# Altium footprint library Con High-Speed PCB.PcbLib: 35 footprints (part 2 of 3)
Each footprint in its own frame and in the unit in brackets; x right, y up, seen from the top. Pads: shape width x height; smd on the part's side, far side on the other; paste and mask are expansions set on the pad; w line width, h text height; cw(c..) or ccw(c..) is an arc to the next point about the centre after c.
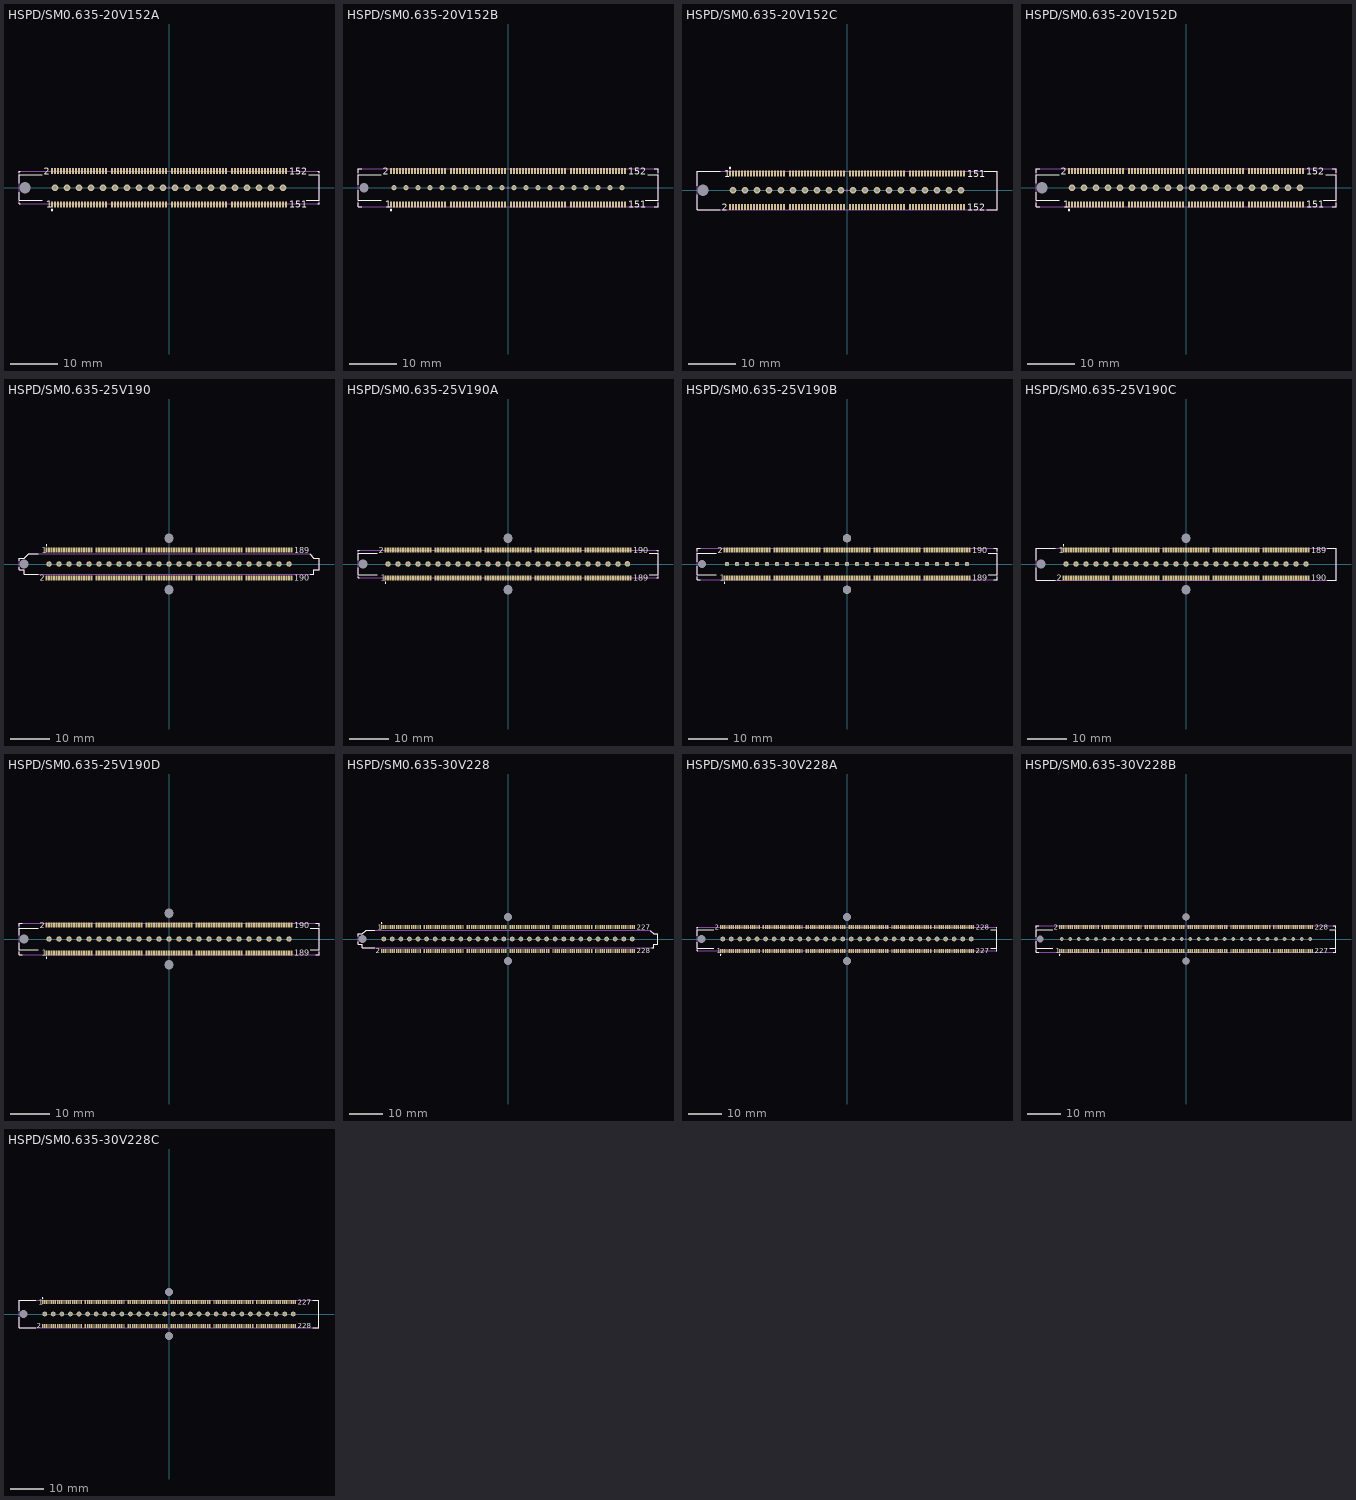
[diagram p1: the footprints below, top view; thin cyan lines are the x and y axes]

## HSPD/SM0.635-20V152A [mil] "Connector; High-Speed, Receptacle; 152 Position; Vertical"
height 250
pads (173):
  rect 17x50 smd: 1(-975,-139) 2(-975,139) 3(-950,-139) 4(-950,139) 5(-925,-139) 6(-925,139) 7(-900,-139) 8(-900,139) 9(-875,-139) 10(-875,139) 11(-850,-139) 12(-850,139) 13(-825,-139) 14(-825,139) 15(-800,-139) 16(-800,139) 17(-775,-139) 18(-775,139) 19(-750,-139) 20(-750,139) 21(-725,-139) 22(-725,139) 23(-700,-139) 24(-700,139) 25(-675,-139) 26(-675,139) 27(-650,-139) 28(-650,139) 29(-625,-139) 30(-625,139) 31(-600,-139) 32(-600,139) 33(-575,-139) 34(-575,139) 35(-550,-139) 36(-550,139) 37(-525,-139) 38(-525,139) 39(-475,-139) 40(-475,139) 41(-450,-139) 42(-450,139) 43(-425,-139) 44(-425,139) 45(-400,-139) 46(-400,139) 47(-375,-139) 48(-375,139) 49(-350,-139) 50(-350,139) 51(-325,-139) 52(-325,139) 53(-300,-139) 54(-300,139) 55(-275,-139) 56(-275,139) 57(-250,-139) 58(-250,139) 59(-225,-139) 60(-225,139) 61(-200,-139) 62(-200,139) 63(-175,-139) 64(-175,139) 65(-150,-139) 66(-150,139) 67(-125,-139) 68(-125,139) 69(-100,-139) 70(-100,139) 71(-75,-139) 72(-75,139) 73(-50,-139) 74(-50,139) 75(-25,-139) 76(-25,139) 77(25,-139) 78(25,139) 79(50,-139) 80(50,139) 81(75,-139) 82(75,139) 83(100,-139) 84(100,139) 85(125,-139) 86(125,139) 87(150,-139) 88(150,139) 89(175,-139) 90(175,139) 91(200,-139) 92(200,139) 93(225,-139) 94(225,139) 95(250,-139) 96(250,139) 97(275,-139) 98(275,139) 99(300,-139) 100(300,139) 101(325,-139) 102(325,139) 103(350,-139) 104(350,139) 105(375,-139) 106(375,139) 107(400,-139) 108(400,139) 109(425,-139) 110(425,139) 111(450,-139) 112(450,139) 113(475,-139) 114(475,139) 115(525,-139) 116(525,139) 117(550,-139) 118(550,139) 119(575,-139) 120(575,139) 121(600,-139) 122(600,139) 123(625,-139) 124(625,139) 125(650,-139) 126(650,139) 127(675,-139) 128(675,139) 129(700,-139) 130(700,139) 131(725,-139) 132(725,139) 133(750,-139) 134(750,139) 135(775,-139) 136(775,139) 137(800,-139) 138(800,139) 139(825,-139) 140(825,139) 141(850,-139) 142(850,139) 143(875,-139) 144(875,139) 145(900,-139) 146(900,139) 147(925,-139) 148(925,139) 149(950,-139) 150(950,139) 151(975,-139) 152(975,139)
  round 55.12 hole 32: 153(950,0) 154(850,0) 155(750,0) 156(650,0) 157(550,0) 158(450,0) 159(350,0) 160(250,0) 161(150,0) 162(50,0) 163(-50,0) 164(-150,0) 165(-250,0) 166(-350,0) 167(-450,0) 168(-550,0) 169(-650,0) 170(-750,0) 171(-850,0) 172(-950,0)
  round 82.19 hole 94 unplated: 173(-1200,0)
Top Overlay:
  circle w9.84: c-975,-185.65 r4.92
  lines w7.87: -1250,-125.69 -1250,-136 -1239.68,-136 ; -1250,-37.91 -1250,-106 -1056.32,-106 ; -1250,37.91 -1250,106 -1056.32,106 ; -1250,125.69 -1250,136 -1239.68,136 ; 1144.87,-106 1250,-106 1250,106 1164.55,106 ; 1239.68,-136 1250,-136 1250,-125.69 ; 1239.68,136 1250,136 1250,125.69
  text "151" at 1002.56,-168.53 h59.06
  text "152" at 1002.56,109.47 h59.06
  text "2" at -1041.93,109.47 h59.06
  text "1" at -1022.24,-168.53 h59.06
Mechanical 1:
  lines w3.94: -10,0 10,0 ; 0,-10 0,10
Mechanical 13:
  lines w3.94: -1250,-136 1250,-136 1250,136 -1250,136 -1250,-136
3D body: height 250, standoff 0, extent -1250,-136 1250,136

## HSPD/SM0.635-20V152B [mil] "Connector; High-Speed, Receptacle; 152 Position; Vertical"
height 600.79
pads (173):
  rect 17x50 smd: 1(-975,-139) 2(-975,139) 3(-950,-139) 4(-950,139) 5(-925,-139) 6(-925,139) 7(-900,-139) 8(-900,139) 9(-875,-139) 10(-875,139) 11(-850,-139) 12(-850,139) 13(-825,-139) 14(-825,139) 15(-800,-139) 16(-800,139) 17(-775,-139) 18(-775,139) 19(-750,-139) 20(-750,139) 21(-725,-139) 22(-725,139) 23(-700,-139) 24(-700,139) 25(-675,-139) 26(-675,139) 27(-650,-139) 28(-650,139) 29(-625,-139) 30(-625,139) 31(-600,-139) 32(-600,139) 33(-575,-139) 34(-575,139) 35(-550,-139) 36(-550,139) 37(-525,-139) 38(-525,139) 39(-475,-139) 40(-475,139) 41(-450,-139) 42(-450,139) 43(-425,-139) 44(-425,139) 45(-400,-139) 46(-400,139) 47(-375,-139) 48(-375,139) 49(-350,-139) 50(-350,139) 51(-325,-139) 52(-325,139) 53(-300,-139) 54(-300,139) 55(-275,-139) 56(-275,139) 57(-250,-139) 58(-250,139) 59(-225,-139) 60(-225,139) 61(-200,-139) 62(-200,139) 63(-175,-139) 64(-175,139) 65(-150,-139) 66(-150,139) 67(-125,-139) 68(-125,139) 69(-100,-139) 70(-100,139) 71(-75,-139) 72(-75,139) 73(-50,-139) 74(-50,139) 75(-25,-139) 76(-25,139) 77(25,-139) 78(25,139) 79(50,-139) 80(50,139) 81(75,-139) 82(75,139) 83(100,-139) 84(100,139) 85(125,-139) 86(125,139) 87(150,-139) 88(150,139) 89(175,-139) 90(175,139) 91(200,-139) 92(200,139) 93(225,-139) 94(225,139) 95(250,-139) 96(250,139) 97(275,-139) 98(275,139) 99(300,-139) 100(300,139) 101(325,-139) 102(325,139) 103(350,-139) 104(350,139) 105(375,-139) 106(375,139) 107(400,-139) 108(400,139) 109(425,-139) 110(425,139) 111(450,-139) 112(450,139) 113(475,-139) 114(475,139) 115(525,-139) 116(525,139) 117(550,-139) 118(550,139) 119(575,-139) 120(575,139) 121(600,-139) 122(600,139) 123(625,-139) 124(625,139) 125(650,-139) 126(650,139) 127(675,-139) 128(675,139) 129(700,-139) 130(700,139) 131(725,-139) 132(725,139) 133(750,-139) 134(750,139) 135(775,-139) 136(775,139) 137(800,-139) 138(800,139) 139(825,-139) 140(825,139) 141(850,-139) 142(850,139) 143(875,-139) 144(875,139) 145(900,-139) 146(900,139) 147(925,-139) 148(925,139) 149(950,-139) 150(950,139) 151(975,-139) 152(975,139)
  round 43.31 hole 25: 153(950,0) 154(850,0) 155(750,0) 156(650,0) 157(550,0) 158(450,0) 159(350,0) 160(250,0) 161(150,0) 162(50,0) 163(-50,0) 164(-150,0) 165(-250,0) 166(-350,0) 167(-450,0) 168(-550,0) 169(-650,0) 170(-750,0) 171(-850,0) 172(-950,0)
  round 67.19 hole 79 unplated: 173(-1200,0)
Top Overlay:
  circle w9.84: c-975,-185.65 r4.92
  lines w7.87: -1250,-125.69 -1250,-157.5 -1218.18,-157.5 ; -1250,-23.5 -1250,-106 -1056.32,-106 ; -1250,23.5 -1250,106 -1056.32,106 ; -1250,125.69 -1250,157.5 -1218.18,157.5 ; 1144.87,-106 1250,-106 1250,106 1164.55,106 ; 1218.18,-157.5 1250,-157.5 1250,-125.69 ; 1218.18,157.5 1250,157.5 1250,125.69
  text "1" at -1022.24,-168.53 h59.06
  text "2" at -1041.93,109.47 h59.06
  text "152" at 1002.56,109.47 h59.06
  text "151" at 1002.56,-168.53 h59.06
Mechanical 1:
  lines w3.94: -10,0 10,0 ; 0,-10 0,10
Mechanical 13:
  lines w3.94: -1250,-157.5 1250,-157.5 1250,157.5 -1250,157.5 -1250,-157.5
3D body: height 600.79, standoff 0, extent -1250,-157.5 1250,157.5

## HSPD/SM0.635-20V152C [mil] "Connector; High-Speed, Plug; 152 Position; Vertical"
height 903.15
pads (173):
  rect 17x50 smd: 1(-975,139) 2(-975,-139) 3(-950,139) 4(-950,-139) 5(-925,139) 6(-925,-139) 7(-900,139) 8(-900,-139) 9(-875,139) 10(-875,-139) 11(-850,139) 12(-850,-139) 13(-825,139) 14(-825,-139) 15(-800,139) 16(-800,-139) 17(-775,139) 18(-775,-139) 19(-750,139) 20(-750,-139) 21(-725,139) 22(-725,-139) 23(-700,139) 24(-700,-139) 25(-675,139) 26(-675,-139) 27(-650,139) 28(-650,-139) 29(-625,139) 30(-625,-139) 31(-600,139) 32(-600,-139) 33(-575,139) 34(-575,-139) 35(-550,139) 36(-550,-139) 37(-525,139) 38(-525,-139) 39(-475,139) 40(-475,-139) 41(-450,139) 42(-450,-139) 43(-425,139) 44(-425,-139) 45(-400,139) 46(-400,-139) 47(-375,139) 48(-375,-139) 49(-350,139) 50(-350,-139) 51(-325,139) 52(-325,-139) 53(-300,139) 54(-300,-139) 55(-275,139) 56(-275,-139) 57(-250,139) 58(-250,-139) 59(-225,139) 60(-225,-139) 61(-200,139) 62(-200,-139) 63(-175,139) 64(-175,-139) 65(-150,139) 66(-150,-139) 67(-125,139) 68(-125,-139) 69(-100,139) 70(-100,-139) 71(-75,139) 72(-75,-139) 73(-50,139) 74(-50,-139) 75(-25,139) 76(-25,-139) 77(25,139) 78(25,-139) 79(50,139) 80(50,-139) 81(75,139) 82(75,-139) 83(100,139) 84(100,-139) 85(125,139) 86(125,-139) 87(150,139) 88(150,-139) 89(175,139) 90(175,-139) 91(200,139) 92(200,-139) 93(225,139) 94(225,-139) 95(250,139) 96(250,-139) 97(275,139) 98(275,-139) 99(300,139) 100(300,-139) 101(325,139) 102(325,-139) 103(350,139) 104(350,-139) 105(375,139) 106(375,-139) 107(400,139) 108(400,-139) 109(425,139) 110(425,-139) 111(450,139) 112(450,-139) 113(475,139) 114(475,-139) 115(525,139) 116(525,-139) 117(550,139) 118(550,-139) 119(575,139) 120(575,-139) 121(600,139) 122(600,-139) 123(625,139) 124(625,-139) 125(650,139) 126(650,-139) 127(675,139) 128(675,-139) 129(700,139) 130(700,-139) 131(725,139) 132(725,-139) 133(750,139) 134(750,-139) 135(775,139) 136(775,-139) 137(800,139) 138(800,-139) 139(825,139) 140(825,-139) 141(850,139) 142(850,-139) 143(875,139) 144(875,-139) 145(900,139) 146(900,-139) 147(925,139) 148(925,-139) 149(950,139) 150(950,-139) 151(975,139) 152(975,-139)
  round 55.12 hole 32: 153(950,0) 154(850,0) 155(750,0) 156(650,0) 157(550,0) 158(450,0) 159(350,0) 160(250,0) 161(150,0) 162(50,0) 163(-50,0) 164(-150,0) 165(-250,0) 166(-350,0) 167(-450,0) 168(-550,0) 169(-650,0) 170(-750,0) 171(-850,0) 172(-950,0)
  round 82.19 hole 94 unplated: 173(-1200,0)
Top Overlay:
  circle w9.84: c-975,185.65 r4.92
  lines w7.87: -1250,-37.91 -1250,-160 -1056.32,-160 ; -1250,37.91 -1250,160 -1056.32,160 ; 1144.87,160 1250,160 1250,-160 1164.55,-160
  text "151" at 1002.56,109.47 h59.06
  text "152" at 1002.56,-168.53 h59.06
  text "2" at -1041.93,-168.53 h59.06
  text "1" at -1022.24,109.47 h59.06
Mechanical 1:
  lines w3.94: -10,0 10,0 ; 0,-10 0,10
Mechanical 13:
  lines w3.94: -1250,-160 1250,-160 1250,160 -1250,160 -1250,-160
3D body: height 903.15, standoff 0, extent -1250,-160 1250,160

## HSPD/SM0.635-20V152D [mil] "Connector; High-Speed, Receptacle; 152 Position; Vertical"
height 600.79
pads (173):
  rect 17x50 smd: 1(-975,-139) 2(-975,139) 3(-950,-139) 4(-950,139) 5(-925,-139) 6(-925,139) 7(-900,-139) 8(-900,139) 9(-875,-139) 10(-875,139) 11(-850,-139) 12(-850,139) 13(-825,-139) 14(-825,139) 15(-800,-139) 16(-800,139) 17(-775,-139) 18(-775,139) 19(-750,-139) 20(-750,139) 21(-725,-139) 22(-725,139) 23(-700,-139) 24(-700,139) 25(-675,-139) 26(-675,139) 27(-650,-139) 28(-650,139) 29(-625,-139) 30(-625,139) 31(-600,-139) 32(-600,139) 33(-575,-139) 34(-575,139) 35(-550,-139) 36(-550,139) 37(-525,-139) 38(-525,139) 39(-475,-139) 40(-475,139) 41(-450,-139) 42(-450,139) 43(-425,-139) 44(-425,139) 45(-400,-139) 46(-400,139) 47(-375,-139) 48(-375,139) 49(-350,-139) 50(-350,139) 51(-325,-139) 52(-325,139) 53(-300,-139) 54(-300,139) 55(-275,-139) 56(-275,139) 57(-250,-139) 58(-250,139) 59(-225,-139) 60(-225,139) 61(-200,-139) 62(-200,139) 63(-175,-139) 64(-175,139) 65(-150,-139) 66(-150,139) 67(-125,-139) 68(-125,139) 69(-100,-139) 70(-100,139) 71(-75,-139) 72(-75,139) 73(-50,-139) 74(-50,139) 75(-25,-139) 76(-25,139) 77(25,-139) 78(25,139) 79(50,-139) 80(50,139) 81(75,-139) 82(75,139) 83(100,-139) 84(100,139) 85(125,-139) 86(125,139) 87(150,-139) 88(150,139) 89(175,-139) 90(175,139) 91(200,-139) 92(200,139) 93(225,-139) 94(225,139) 95(250,-139) 96(250,139) 97(275,-139) 98(275,139) 99(300,-139) 100(300,139) 101(325,-139) 102(325,139) 103(350,-139) 104(350,139) 105(375,-139) 106(375,139) 107(400,-139) 108(400,139) 109(425,-139) 110(425,139) 111(450,-139) 112(450,139) 113(475,-139) 114(475,139) 115(525,-139) 116(525,139) 117(550,-139) 118(550,139) 119(575,-139) 120(575,139) 121(600,-139) 122(600,139) 123(625,-139) 124(625,139) 125(650,-139) 126(650,139) 127(675,-139) 128(675,139) 129(700,-139) 130(700,139) 131(725,-139) 132(725,139) 133(750,-139) 134(750,139) 135(775,-139) 136(775,139) 137(800,-139) 138(800,139) 139(825,-139) 140(825,139) 141(850,-139) 142(850,139) 143(875,-139) 144(875,139) 145(900,-139) 146(900,139) 147(925,-139) 148(925,139) 149(950,-139) 150(950,139) 151(975,-139) 152(975,139)
  round 55.12 hole 32: 153(950,0) 154(850,0) 155(750,0) 156(650,0) 157(550,0) 158(450,0) 159(350,0) 160(250,0) 161(150,0) 162(50,0) 163(-50,0) 164(-150,0) 165(-250,0) 166(-350,0) 167(-450,0) 168(-550,0) 169(-650,0) 170(-750,0) 171(-850,0) 172(-950,0)
  round 82.19 hole 94 unplated: 173(-1200,0)
Top Overlay:
  circle w9.84: c-975,-185.65 r4.92
  lines w7.87: -1250,-125.69 -1250,-157.5 -1218.18,-157.5 ; -1250,-37.91 -1250,-106 -1056.32,-106 ; -1250,37.91 -1250,106 -1056.32,106 ; -1250,125.69 -1250,157.5 -1218.18,157.5 ; 1144.87,-106 1250,-106 1250,106 1164.55,106 ; 1218.18,-157.5 1250,-157.5 1250,-125.69 ; 1218.18,157.5 1250,157.5 1250,125.69
  text "151" at 1002.56,-168.53 h59.06
  text "152" at 1002.56,109.47 h59.06
  text "2" at -1041.93,109.47 h59.06
  text "1" at -1022.24,-168.53 h59.06
Mechanical 1:
  lines w3.94: -10,0 10,0 ; 0,-10 0,10
Mechanical 13:
  lines w3.94: -1250,-157.5 1250,-157.5 1250,157.5 -1250,157.5 -1250,-157.5
3D body: height 600.79, standoff 0, extent -1250,-157.5 1250,157.5

## HSPD/SM0.635-25V190 [mil] "Connector; High-Speed, Plug; 190 Position; Vertical"
height 435.83
pads (218):
  rect 17x50 smd: 1(-1225,139) 2(-1225,-139) 3(-1200,139) 4(-1200,-139) 5(-1175,139) 6(-1175,-139) 7(-1150,139) 8(-1150,-139) 9(-1125,139) 10(-1125,-139) 11(-1100,139) 12(-1100,-139) 13(-1075,139) 14(-1075,-139) 15(-1050,139) 16(-1050,-139) 17(-1025,139) 18(-1025,-139) 19(-1000,139) 20(-1000,-139) 21(-975,139) 22(-975,-139) 23(-950,139) 24(-950,-139) 25(-925,139) 26(-925,-139) 27(-900,139) 28(-900,-139) 29(-875,139) 30(-875,-139) 31(-850,139) 32(-850,-139) 33(-825,139) 34(-825,-139) 35(-800,139) 36(-800,-139) 37(-775,139) 38(-775,-139) 39(-725,139) 40(-725,-139) 41(-700,139) 42(-700,-139) 43(-675,139) 44(-675,-139) 45(-650,139) 46(-650,-139) 47(-625,139) 48(-625,-139) 49(-600,139) 50(-600,-139) 51(-575,139) 52(-575,-139) 53(-550,139) 54(-550,-139) 55(-525,139) 56(-525,-139) 57(-500,139) 58(-500,-139) 59(-475,139) 60(-475,-139) 61(-450,139) 62(-450,-139) 63(-425,139) 64(-425,-139) 65(-400,139) 66(-400,-139) 67(-375,139) 68(-375,-139) 69(-350,139) 70(-350,-139) 71(-325,139) 72(-325,-139) 73(-300,139) 74(-300,-139) 75(-275,139) 76(-275,-139) 77(-225,139) 78(-225,-139) 79(-200,139) 80(-200,-139) 81(-175,139) 82(-175,-139) 83(-150,139) 84(-150,-139) 85(-125,139) 86(-125,-139) 87(-100,139) 88(-100,-139) 89(-75,139) 90(-75,-139) 91(-50,139) 92(-50,-139) 93(-25,139) 94(-25,-139) 95(0,139) 96(0,-139) 97(25,139) 98(25,-139) 99(50,139) 100(50,-139) 101(75,139) 102(75,-139) 103(100,139) 104(100,-139) 105(125,139) 106(125,-139) 107(150,139) 108(150,-139) 109(175,139) 110(175,-139) 111(200,139) 112(200,-139) 113(225,139) 114(225,-139) 115(275,139) 116(275,-139) 117(300,139) 118(300,-139) 119(325,139) 120(325,-139) 121(350,139) 122(350,-139) 123(375,139) 124(375,-139) 125(400,139) 126(400,-139) 127(425,139) 128(425,-139) 129(450,139) 130(450,-139) 131(475,139) 132(475,-139) 133(500,139) 134(500,-139) 135(525,139) 136(525,-139) 137(550,139) 138(550,-139) 139(575,139) 140(575,-139) 141(600,139) 142(600,-139) 143(625,139) 144(625,-139) 145(650,139) 146(650,-139) 147(675,139) 148(675,-139) 149(700,139) 150(700,-139) 151(725,139) 152(725,-139) 153(775,139) 154(775,-139) 155(800,139) 156(800,-139) 157(825,139) 158(825,-139) 159(850,139) 160(850,-139) 161(875,139) 162(875,-139) 163(900,139) 164(900,-139) 165(925,139) 166(925,-139) 167(950,139) 168(950,-139) 169(975,139) 170(975,-139) 171(1000,139) 172(1000,-139) 173(1025,139) 174(1025,-139) 175(1050,139) 176(1050,-139) 177(1075,139) 178(1075,-139) 179(1100,139) 180(1100,-139) 181(1125,139) 182(1125,-139) 183(1150,139) 184(1150,-139) 185(1175,139) 186(1175,-139) 187(1200,139) 188(1200,-139) 189(1225,139) 190(1225,-139)
  round 55.12 hole 32: 191(1200,0) 192(1100,0) 193(1000,0) 194(900,0) 195(800,0) 196(700,0) 197(600,0) 198(500,0) 199(400,0) 200(300,0) 201(200,0) 202(100,0) 203(0,0) 204(-100,0) 205(-200,0) 206(-300,0) 207(-400,0) 208(-500,0) 209(-600,0) 210(-700,0) 211(-800,0) 212(-900,0) 213(-1000,0) 214(-1100,0) 215(-1200,0)
  round 82.19 hole 94 unplated: 216(-1450,0) 217(0,-257.11) 218(0,257.11)
Top Overlay:
  circle w9.84: c-1225,185.65 r4.92
  lines w7.87: -1500,-31.32 -1500,-59 -1449,-59 -1449,-104 -1306.32,-104 ; -1500,31.32 -1500,59 -1449,59 -1404,104 -1306.32,104 ; 1405.5,102.5 1449,59 1500,59 1500,-59 1449,-59 1449,-104 1414.55,-104
  text "189" at 1252.56,109.47 h59.06
  text "190" at 1252.56,-168.53 h59.06
  text "1" at -1272.24,109.47 h59.06
  text "2" at -1291.93,-168.53 h59.06
Mechanical 13:
  lines w3.94: -1414.55,-104 -1449,-104 ; 1414.55,-104 1449,-104 ; -1449,-104 -1449,-59 -1500,-59 -1500,59 -1449,59 -1404,104 1405.5,104 1449,59 1500,59 1500,-59 1449,-59 1449,-104 ; -1449,-104 1449,-104
3D body: height 435.83, standoff 0, extent -1500.02,-104.02 1500.02,104.02

## HSPD/SM0.635-25V190A [mil] "Connector; High-Speed, Receptacle; 190 Position; Vertical"
height 250
pads (218):
  rect 17x50 smd: 1(-1225,-139) 2(-1225,139) 3(-1200,-139) 4(-1200,139) 5(-1175,-139) 6(-1175,139) 7(-1150,-139) 8(-1150,139) 9(-1125,-139) 10(-1125,139) 11(-1100,-139) 12(-1100,139) 13(-1075,-139) 14(-1075,139) 15(-1050,-139) 16(-1050,139) 17(-1025,-139) 18(-1025,139) 19(-1000,-139) 20(-1000,139) 21(-975,-139) 22(-975,139) 23(-950,-139) 24(-950,139) 25(-925,-139) 26(-925,139) 27(-900,-139) 28(-900,139) 29(-875,-139) 30(-875,139) 31(-850,-139) 32(-850,139) 33(-825,-139) 34(-825,139) 35(-800,-139) 36(-800,139) 37(-775,-139) 38(-775,139) 39(-725,-139) 40(-725,139) 41(-700,-139) 42(-700,139) 43(-675,-139) 44(-675,139) 45(-650,-139) 46(-650,139) 47(-625,-139) 48(-625,139) 49(-600,-139) 50(-600,139) 51(-575,-139) 52(-575,139) 53(-550,-139) 54(-550,139) 55(-525,-139) 56(-525,139) 57(-500,-139) 58(-500,139) 59(-475,-139) 60(-475,139) 61(-450,-139) 62(-450,139) 63(-425,-139) 64(-425,139) 65(-400,-139) 66(-400,139) 67(-375,-139) 68(-375,139) 69(-350,-139) 70(-350,139) 71(-325,-139) 72(-325,139) 73(-300,-139) 74(-300,139) 75(-275,-139) 76(-275,139) 77(-225,-139) 78(-225,139) 79(-200,-139) 80(-200,139) 81(-175,-139) 82(-175,139) 83(-150,-139) 84(-150,139) 85(-125,-139) 86(-125,139) 87(-100,-139) 88(-100,139) 89(-75,-139) 90(-75,139) 91(-50,-139) 92(-50,139) 93(-25,-139) 94(-25,139) 95(0,-139) 96(0,139) 97(25,-139) 98(25,139) 99(50,-139) 100(50,139) 101(75,-139) 102(75,139) 103(100,-139) 104(100,139) 105(125,-139) 106(125,139) 107(150,-139) 108(150,139) 109(175,-139) 110(175,139) 111(200,-139) 112(200,139) 113(225,-139) 114(225,139) 115(275,-139) 116(275,139) 117(300,-139) 118(300,139) 119(325,-139) 120(325,139) 121(350,-139) 122(350,139) 123(375,-139) 124(375,139) 125(400,-139) 126(400,139) 127(425,-139) 128(425,139) 129(450,-139) 130(450,139) 131(475,-139) 132(475,139) 133(500,-139) 134(500,139) 135(525,-139) 136(525,139) 137(550,-139) 138(550,139) 139(575,-139) 140(575,139) 141(600,-139) 142(600,139) 143(625,-139) 144(625,139) 145(650,-139) 146(650,139) 147(675,-139) 148(675,139) 149(700,-139) 150(700,139) 151(725,-139) 152(725,139) 153(775,-139) 154(775,139) 155(800,-139) 156(800,139) 157(825,-139) 158(825,139) 159(850,-139) 160(850,139) 161(875,-139) 162(875,139) 163(900,-139) 164(900,139) 165(925,-139) 166(925,139) 167(950,-139) 168(950,139) 169(975,-139) 170(975,139) 171(1000,-139) 172(1000,139) 173(1025,-139) 174(1025,139) 175(1050,-139) 176(1050,139) 177(1075,-139) 178(1075,139) 179(1100,-139) 180(1100,139) 181(1125,-139) 182(1125,139) 183(1150,-139) 184(1150,139) 185(1175,-139) 186(1175,139) 187(1200,-139) 188(1200,139) 189(1225,-139) 190(1225,139)
  round 55.12 hole 32: 191(1194.69,0.97) 192(1100,0) 193(1000,0) 194(900,0) 195(800,0) 196(700,0) 197(600,0) 198(500,0) 199(400,0) 200(300,0) 201(200,0) 202(100,0) 203(0,0) 204(-100,0) 205(-200,0) 206(-300,0) 207(-400,0) 208(-500,0) 209(-600,0) 210(-700,0) 211(-800,0) 212(-900,0) 213(-1000,0) 214(-1100,0) 215(-1200,0)
  round 82.19 hole 94 unplated: 216(-1450,0) 217(0,-257.11) 218(0,257.11)
Top Overlay:
  circle w9.84: c-1225,-185.65 r4.92
  lines w7.87: -1500,-125.69 -1500,-136 -1489.68,-136 ; -1500,-37.91 -1500,-106 -1306.32,-106 ; -1500,37.91 -1500,106 -1306.32,106 ; -1500,125.69 -1500,136 -1489.68,136 ; 1414.55,-106 1500,-106 1500,106 1414.55,106 ; 1489.68,-136 1500,-136 1500,-125.69 ; 1489.68,136 1500,136 1500,125.69
  text "2" at -1291.93,109.47 h59.06
  text "189" at 1252.56,-168.53 h59.06
  text "190" at 1252.56,109.47 h59.06
  text "1" at -1272.24,-168.53 h59.06
Mechanical 13:
  lines w3.94: -1500,-136 1500,-136 1500,136 -1500,136 -1500,-136
3D body: height 250, standoff 0, extent -1500,-136 1500,136

## HSPD/SM0.635-25V190B [mil] "Connector; High-Speed, Receptacle; 190 Position; Vertical"
height 600.79
pads (218):
  rect 17x50 smd: 1(-1225,-139) 2(-1225,139) 3(-1200,-139) 4(-1200,139) 5(-1175,-139) 6(-1175,139) 7(-1150,-139) 8(-1150,139) 9(-1125,-139) 10(-1125,139) 11(-1100,-139) 12(-1100,139) 13(-1075,-139) 14(-1075,139) 15(-1050,-139) 16(-1050,139) 17(-1025,-139) 18(-1025,139) 19(-1000,-139) 20(-1000,139) 21(-975,-139) 22(-975,139) 23(-950,-139) 24(-950,139) 25(-925,-139) 26(-925,139) 27(-900,-139) 28(-900,139) 29(-875,-139) 30(-875,139) 31(-850,-139) 32(-850,139) 33(-825,-139) 34(-825,139) 35(-800,-139) 36(-800,139) 37(-775,-139) 38(-775,139) 39(-725,-139) 40(-725,139) 41(-700,-139) 42(-700,139) 43(-675,-139) 44(-675,139) 45(-650,-139) 46(-650,139) 47(-625,-139) 48(-625,139) 49(-600,-139) 50(-600,139) 51(-575,-139) 52(-575,139) 53(-550,-139) 54(-550,139) 55(-525,-139) 56(-525,139) 57(-500,-139) 58(-500,139) 59(-475,-139) 60(-475,139) 61(-450,-139) 62(-450,139) 63(-425,-139) 64(-425,139) 65(-400,-139) 66(-400,139) 67(-375,-139) 68(-375,139) 69(-350,-139) 70(-350,139) 71(-325,-139) 72(-325,139) 73(-300,-139) 74(-300,139) 75(-275,-139) 76(-275,139) 77(-225,-139) 78(-225,139) 79(-200,-139) 80(-200,139) 81(-175,-139) 82(-175,139) 83(-150,-139) 84(-150,139) 85(-125,-139) 86(-125,139) 87(-100,-139) 88(-100,139) 89(-75,-139) 90(-75,139) 91(-50,-139) 92(-50,139) 93(-25,-139) 94(-25,139) 95(0,-139) 96(0,139) 97(25,-139) 98(25,139) 99(50,-139) 100(50,139) 101(75,-139) 102(75,139) 103(100,-139) 104(100,139) 105(125,-139) 106(125,139) 107(150,-139) 108(150,139) 109(175,-139) 110(175,139) 111(200,-139) 112(200,139) 113(225,-139) 114(225,139) 115(275,-139) 116(275,139) 117(300,-139) 118(300,139) 119(325,-139) 120(325,139) 121(350,-139) 122(350,139) 123(375,-139) 124(375,139) 125(400,-139) 126(400,139) 127(425,-139) 128(425,139) 129(450,-139) 130(450,139) 131(475,-139) 132(475,139) 133(500,-139) 134(500,139) 135(525,-139) 136(525,139) 137(550,-139) 138(550,139) 139(575,-139) 140(575,139) 141(600,-139) 142(600,139) 143(625,-139) 144(625,139) 145(650,-139) 146(650,139) 147(675,-139) 148(675,139) 149(700,-139) 150(700,139) 151(725,-139) 152(725,139) 153(775,-139) 154(775,139) 155(800,-139) 156(800,139) 157(825,-139) 158(825,139) 159(850,-139) 160(850,139) 161(875,-139) 162(875,139) 163(900,-139) 164(900,139) 165(925,-139) 166(925,139) 167(950,-139) 168(950,139) 169(975,-139) 170(975,139) 171(1000,-139) 172(1000,139) 173(1025,-139) 174(1025,139) 175(1050,-139) 176(1050,139) 177(1075,-139) 178(1075,139) 179(1100,-139) 180(1100,139) 181(1125,-139) 182(1125,139) 183(1150,-139) 184(1150,139) 185(1175,-139) 186(1175,139) 187(1200,-139) 188(1200,139) 189(1225,-139) 190(1225,139)
  round 43.31 hole 25: 191(1200,0) 192(1100,0) 193(1000,0) 194(900,0) 195(800,0) 196(700,0) 197(600,0) 198(500,0) 199(400,0) 200(300,0) 201(200,0) 202(100,0) 203(0,0) 204(-100,0) 205(-200,0) 206(-300,0) 207(-400,0) 208(-500,0) 209(-600,0) 210(-700,0) 211(-800,0) 212(-900,0) 213(-1000,0) 214(-1100,0) 215(-1200,0)
  round 67.19 hole 79 unplated: 216(-1450,0)
  round 82.19 hole 79: 217(0,-257.11) 218(0,257.11)
Top Overlay:
  circle w9.84: c-1225,-185.65 r4.92
  lines w7.87: -1500,-125.69 -1500,-157.5 -1468.18,-157.5 ; -1500,-23.5 -1500,-106 -1306.32,-106 ; -1500,23.5 -1500,106 -1306.32,106 ; -1500,125.69 -1500,157.5 -1468.18,157.5 ; 1414.55,-106 1500,-106 1500,106 1414.55,106 ; 1468.18,-157.5 1500,-157.5 1500,-125.69 ; 1468.18,157.5 1500,157.5 1500,125.69
  text "189" at 1252.56,-168.53 h59.06
  text "190" at 1252.56,109.47 h59.06
  text "1" at -1272.24,-168.53 h59.06
  text "2" at -1291.93,109.47 h59.06
Mechanical 13:
  lines w3.94: -1500,-157.5 1500,-157.5 1500,157.5 -1500,157.5 -1500,-157.5
3D body: height 600.79, standoff 0, extent -1500,-157.5 1500,157.5

## HSPD/SM0.635-25V190C [mil] "Connector; High-Speed, Plug; 190 Position; Vertical"
height 903.15
pads (218):
  rect 17x50 smd: 1(-1225,139) 2(-1225,-139) 3(-1200,139) 4(-1200,-139) 5(-1175,139) 6(-1175,-139) 7(-1150,139) 8(-1150,-139) 9(-1125,139) 10(-1125,-139) 11(-1100,139) 12(-1100,-139) 13(-1075,139) 14(-1075,-139) 15(-1050,139) 16(-1050,-139) 17(-1025,139) 18(-1025,-139) 19(-1000,139) 20(-1000,-139) 21(-975,139) 22(-975,-139) 23(-950,139) 24(-950,-139) 25(-925,139) 26(-925,-139) 27(-900,139) 28(-900,-139) 29(-875,139) 30(-875,-139) 31(-850,139) 32(-850,-139) 33(-825,139) 34(-825,-139) 35(-800,139) 36(-800,-139) 37(-775,139) 38(-775,-139) 39(-725,139) 40(-725,-139) 41(-700,139) 42(-700,-139) 43(-675,139) 44(-675,-139) 45(-650,139) 46(-650,-139) 47(-625,139) 48(-625,-139) 49(-600,139) 50(-600,-139) 51(-575,139) 52(-575,-139) 53(-550,139) 54(-550,-139) 55(-525,139) 56(-525,-139) 57(-500,139) 58(-500,-139) 59(-475,139) 60(-475,-139) 61(-450,139) 62(-450,-139) 63(-425,139) 64(-425,-139) 65(-400,139) 66(-400,-139) 67(-375,139) 68(-375,-139) 69(-350,139) 70(-350,-139) 71(-325,139) 72(-325,-139) 73(-300,139) 74(-300,-139) 75(-275,139) 76(-275,-139) 77(-225,139) 78(-225,-139) 79(-200,139) 80(-200,-139) 81(-175,139) 82(-175,-139) 83(-150,139) 84(-150,-139) 85(-125,139) 86(-125,-139) 87(-100,139) 88(-100,-139) 89(-75,139) 90(-75,-139) 91(-50,139) 92(-50,-139) 93(-25,139) 94(-25,-139) 95(0,139) 96(0,-139) 97(25,139) 98(25,-139) 99(50,139) 100(50,-139) 101(75,139) 102(75,-139) 103(100,139) 104(100,-139) 105(125,139) 106(125,-139) 107(150,139) 108(150,-139) 109(175,139) 110(175,-139) 111(200,139) 112(200,-139) 113(225,139) 114(225,-139) 115(275,139) 116(275,-139) 117(300,139) 118(300,-139) 119(325,139) 120(325,-139) 121(350,139) 122(350,-139) 123(375,139) 124(375,-139) 125(400,139) 126(400,-139) 127(425,139) 128(425,-139) 129(450,139) 130(450,-139) 131(475,139) 132(475,-139) 133(500,139) 134(500,-139) 135(525,139) 136(525,-139) 137(550,139) 138(550,-139) 139(575,139) 140(575,-139) 141(600,139) 142(600,-139) 143(625,139) 144(625,-139) 145(650,139) 146(650,-139) 147(675,139) 148(675,-139) 149(700,139) 150(700,-139) 151(725,139) 152(725,-139) 153(775,139) 154(775,-139) 155(800,139) 156(800,-139) 157(825,139) 158(825,-139) 159(850,139) 160(850,-139) 161(875,139) 162(875,-139) 163(900,139) 164(900,-139) 165(925,139) 166(925,-139) 167(950,139) 168(950,-139) 169(975,139) 170(975,-139) 171(1000,139) 172(1000,-139) 173(1025,139) 174(1025,-139) 175(1050,139) 176(1050,-139) 177(1075,139) 178(1075,-139) 179(1100,139) 180(1100,-139) 181(1125,139) 182(1125,-139) 183(1150,139) 184(1150,-139) 185(1175,139) 186(1175,-139) 187(1200,139) 188(1200,-139) 189(1225,139) 190(1225,-139)
  round 55.12 hole 32: 191(1200,0) 192(1100,0) 193(1000,0) 194(900,0) 195(800,0) 196(700,0) 197(600,0) 198(500,0) 199(400,0) 200(300,0) 201(200,0) 202(100,0) 203(0,0) 204(-100,0) 205(-200,0) 206(-300,0) 207(-400,0) 208(-500,0) 209(-600,0) 210(-700,0) 211(-800,0) 212(-900,0) 213(-1000,0) 214(-1100,0) 215(-1200,0)
  round 82.19 hole 94 unplated: 216(-1450,0) 217(0,-257.11) 218(0,257.11)
Top Overlay:
  circle w9.84: c-1225,185.65 r4.92
  lines w7.87: -1500,-37.91 -1500,-160 -1306.32,-160 ; -1500,37.91 -1500,160 -1306.32,160 ; 1414.55,-160 1500,-160 1500,160 1414.55,160
  text "189" at 1252.56,109.47 h59.06
  text "190" at 1252.56,-168.53 h59.06
  text "1" at -1272.24,109.47 h59.06
  text "2" at -1291.93,-168.53 h59.06
Mechanical 13:
  lines w3.94: -1500,-160 -1500,160 1500,160 1500,-160 -1500,-160
3D body: height 903.15, standoff 0, extent -1500,-160 1500,160

## HSPD/SM0.635-25V190D [mil] "Connector; High-Speed, Receptacle; 190 Position; Vertical"
height 600.79
pads (218):
  rect 17x50 smd: 1(-1225,-139) 2(-1225,139) 3(-1200,-139) 4(-1200,139) 5(-1175,-139) 6(-1175,139) 7(-1150,-139) 8(-1150,139) 9(-1125,-139) 10(-1125,139) 11(-1100,-139) 12(-1100,139) 13(-1075,-139) 14(-1075,139) 15(-1050,-139) 16(-1050,139) 17(-1025,-139) 18(-1025,139) 19(-1000,-139) 20(-1000,139) 21(-975,-139) 22(-975,139) 23(-950,-139) 24(-950,139) 25(-925,-139) 26(-925,139) 27(-900,-139) 28(-900,139) 29(-875,-139) 30(-875,139) 31(-850,-139) 32(-850,139) 33(-825,-139) 34(-825,139) 35(-800,-139) 36(-800,139) 37(-775,-139) 38(-775,139) 39(-725,-139) 40(-725,139) 41(-700,-139) 42(-700,139) 43(-675,-139) 44(-675,139) 45(-650,-139) 46(-650,139) 47(-625,-139) 48(-625,139) 49(-600,-139) 50(-600,139) 51(-575,-139) 52(-575,139) 53(-550,-139) 54(-550,139) 55(-525,-139) 56(-525,139) 57(-500,-139) 58(-500,139) 59(-475,-139) 60(-475,139) 61(-450,-139) 62(-450,139) 63(-425,-139) 64(-425,139) 65(-400,-139) 66(-400,139) 67(-375,-139) 68(-375,139) 69(-350,-139) 70(-350,139) 71(-325,-139) 72(-325,139) 73(-300,-139) 74(-300,139) 75(-275,-139) 76(-275,139) 77(-225,-139) 78(-225,139) 79(-200,-139) 80(-200,139) 81(-175,-139) 82(-175,139) 83(-150,-139) 84(-150,139) 85(-125,-139) 86(-125,139) 87(-100,-139) 88(-100,139) 89(-75,-139) 90(-75,139) 91(-50,-139) 92(-50,139) 93(-25,-139) 94(-25,139) 95(0,-139) 96(0,139) 97(25,-139) 98(25,139) 99(50,-139) 100(50,139) 101(75,-139) 102(75,139) 103(100,-139) 104(100,139) 105(125,-139) 106(125,139) 107(150,-139) 108(150,139) 109(175,-139) 110(175,139) 111(200,-139) 112(200,139) 113(225,-139) 114(225,139) 115(275,-139) 116(275,139) 117(300,-139) 118(300,139) 119(325,-139) 120(325,139) 121(350,-139) 122(350,139) 123(375,-139) 124(375,139) 125(400,-139) 126(400,139) 127(425,-139) 128(425,139) 129(450,-139) 130(450,139) 131(475,-139) 132(475,139) 133(500,-139) 134(500,139) 135(525,-139) 136(525,139) 137(550,-139) 138(550,139) 139(575,-139) 140(575,139) 141(600,-139) 142(600,139) 143(625,-139) 144(625,139) 145(650,-139) 146(650,139) 147(675,-139) 148(675,139) 149(700,-139) 150(700,139) 151(725,-139) 152(725,139) 153(775,-139) 154(775,139) 155(800,-139) 156(800,139) 157(825,-139) 158(825,139) 159(850,-139) 160(850,139) 161(875,-139) 162(875,139) 163(900,-139) 164(900,139) 165(925,-139) 166(925,139) 167(950,-139) 168(950,139) 169(975,-139) 170(975,139) 171(1000,-139) 172(1000,139) 173(1025,-139) 174(1025,139) 175(1050,-139) 176(1050,139) 177(1075,-139) 178(1075,139) 179(1100,-139) 180(1100,139) 181(1125,-139) 182(1125,139) 183(1150,-139) 184(1150,139) 185(1175,-139) 186(1175,139) 187(1200,-139) 188(1200,139) 189(1225,-139) 190(1225,139)
  round 55.12 hole 32: 191(1200,0) 192(1100,0) 193(1000,0) 194(900,0) 195(800,0) 196(700,0) 197(600,0) 198(500,0) 199(400,0) 200(300,0) 201(200,0) 202(100,0) 203(0,0) 204(-100,0) 205(-200,0) 206(-300,0) 207(-400,0) 208(-500,0) 209(-600,0) 210(-700,0) 211(-800,0) 212(-900,0) 213(-1000,0) 214(-1100,0) 215(-1200,0)
  round 82.19 hole 94 unplated: 216(-1450,0) 217(0,-257.11) 218(0,257.11)
Top Overlay:
  circle w9.84: c-1225,-185.65 r4.92
  lines w7.87: -1500,-125.69 -1500,-157.5 -1468.18,-157.5 ; -1500,-37.91 -1500,-106 -1306.32,-106 ; -1500,37.91 -1500,106 -1306.32,106 ; -1500,125.69 -1500,157.5 -1468.18,157.5 ; 1414.55,-106 1500,-106 1500,106 1414.55,106 ; 1468.18,-157.5 1500,-157.5 1500,-125.69 ; 1468.18,157.5 1500,157.5 1500,125.69
  text "189" at 1252.56,-168.53 h59.06
  text "190" at 1252.56,109.47 h59.06
  text "1" at -1272.24,-168.53 h59.06
  text "2" at -1291.93,109.47 h59.06
Mechanical 13:
  lines w3.94: -1500,-157.5 -1500,157.5 1500,157.5 1500,-157.5 -1500,-157.5
3D body: height 600.79, standoff 0, extent -1500,-157.5 1500,157.5

## HSPD/SM0.635-30V228 [mil] "Connector; High-Speed, Plug; 228 Position; Vertical"
height 435.83
pads (261):
  rect 17x50 smd: 1(-1475,139) 2(-1475,-139) 3(-1450,139) 4(-1450,-139) 5(-1425,139) 6(-1425,-139) 7(-1400,139) 8(-1400,-139) 9(-1375,139) 10(-1375,-139) 11(-1350,139) 12(-1350,-139) 13(-1325,139) 14(-1325,-139) 15(-1300,139) 16(-1300,-139) 17(-1275,139) 18(-1275,-139) 19(-1250,139) 20(-1250,-139) 21(-1225,139) 22(-1225,-139) 23(-1200,139) 24(-1200,-139) 25(-1175,139) 26(-1175,-139) 27(-1150,139) 28(-1150,-139) 29(-1125,139) 30(-1125,-139) 31(-1100,139) 32(-1100,-139) 33(-1075,139) 34(-1075,-139) 35(-1050,139) 36(-1050,-139) 37(-1025,139) 38(-1025,-139) 39(-975,139) 40(-975,-139) 41(-950,139) 42(-950,-139) 43(-925,139) 44(-925,-139) 45(-900,139) 46(-900,-139) 47(-875,139) 48(-875,-139) 49(-850,139) 50(-850,-139) 51(-825,139) 52(-825,-139) 53(-800,139) 54(-800,-139) 55(-775,139) 56(-775,-139) 57(-750,139) 58(-750,-139) 59(-725,139) 60(-725,-139) 61(-700,139) 62(-700,-139) 63(-675,139) 64(-675,-139) 65(-650,139) 66(-650,-139) 67(-625,139) 68(-625,-139) 69(-600,139) 70(-600,-139) 71(-575,139) 72(-575,-139) 73(-550,139) 74(-550,-139) 75(-525,139) 76(-525,-139) 77(-475,139) 78(-475,-139) 79(-450,139) 80(-450,-139) 81(-425,139) 82(-425,-139) 83(-400,139) 84(-400,-139) 85(-375,139) 86(-375,-139) 87(-350,139) 88(-350,-139) 89(-325,139) 90(-325,-139) 91(-300,139) 92(-300,-139) 93(-275,139) 94(-275,-139) 95(-250,139) 96(-250,-139) 97(-225,139) 98(-225,-139) 99(-200,139) 100(-200,-139) 101(-175,139) 102(-175,-139) 103(-150,139) 104(-150,-139) 105(-125,139) 106(-125,-139) 107(-100,139) 108(-100,-139) 109(-75,139) 110(-75,-139) 111(-50,139) 112(-50,-139) 113(-25,139) 114(-25,-139) 115(25,139) 116(25,-139) 117(50,139) 118(50,-139) 119(75,139) 120(75,-139) 121(100,139) 122(100,-139) 123(125,139) 124(125,-139) 125(150,139) 126(150,-139) 127(175,139) 128(175,-139) 129(200,139) 130(200,-139) 131(225,139) 132(225,-139) 133(250,139) 134(250,-139) 135(275,139) 136(275,-139) 137(300,139) 138(300,-139) 139(325,139) 140(325,-139) 141(350,139) 142(350,-139) 143(375,139) 144(375,-139) 145(400,139) 146(400,-139) 147(425,139) 148(425,-139) 149(450,139) 150(450,-139) 151(475,139) 152(475,-139) 153(525,139) 154(525,-139) 155(550,139) 156(550,-139) 157(575,139) 158(575,-139) 159(600,139) 160(600,-139) 161(625,139) 162(625,-139) 163(650,139) 164(650,-139) 165(675,139) 166(675,-139) 167(700,139) 168(700,-139) 169(725,139) 170(725,-139) 171(750,139) 172(750,-139) 173(775,139) 174(775,-139) 175(800,139) 176(800,-139) 177(825,139) 178(825,-139) 179(850,139) 180(850,-139) 181(875,139) 182(875,-139) 183(900,139) 184(900,-139) 185(925,139) 186(925,-139) 187(950,139) 188(950,-139) 189(975,139) 190(975,-139) 191(1025,139) 192(1025,-139) 193(1050,139) 194(1050,-139) 195(1075,139) 196(1075,-139) 197(1100,139) 198(1100,-139) 199(1125,139) 200(1125,-139) 201(1150,139) 202(1150,-139) 203(1175,139) 204(1175,-139) 205(1200,139) 206(1200,-139) 207(1225,139) 208(1225,-139) 209(1250,139) 210(1250,-139) 211(1275,139) 212(1275,-139) 213(1300,139) 214(1300,-139) 215(1325,139) 216(1325,-139) 217(1350,139) 218(1350,-139) 219(1375,139) 220(1375,-139) 221(1400,139) 222(1400,-139) 223(1425,139) 224(1425,-139) 225(1450,139) 226(1450,-139) 227(1475,139) 228(1475,-139)
  round 55.12 hole 32: 229(1450,0) 230(1350,0) 231(1250,0) 232(1150,0) 233(1050,0) 234(950,0) 235(850,0) 236(750,0) 237(650,0) 238(550,0) 239(450,0) 240(350,0) 241(250,0) 242(150,0) 243(50,0) 244(-50,0) 245(-150,0) 246(-250,0) 247(-350,0) 248(-450,0) 249(-550,0) 250(-650,0) 251(-750,0) 252(-850,0) 253(-950,0) 254(-1050,0) 255(-1150,0) 256(-1250,0) 257(-1350,0) 258(-1450,0)
  round 82.19 hole 94 unplated: 259(-1700,0) 260(0,-257.11) 261(0,257.11)
Top Overlay:
  circle w9.84: c-1475,185.65 r4.92
  lines w7.87: -1750,-31.32 -1750,-59 -1699,-59 -1699,-104 -1556.32,-104 ; -1750,31.32 -1750,59 -1699,59 -1654,104 -1556.32,104 ; 1660.41,97.59 1699,59 1750,59 1750,-59 1699,-59 1699,-104 1674.39,-104
  text "227" at 1502.56,109.47 h59.06
  text "228" at 1502.56,-168.53 h59.06
  text "1" at -1522.24,109.47 h59.06
  text "2" at -1541.93,-168.53 h59.06
Mechanical 1:
  lines w3.94: -10,0 10,0 ; 0,-10 0,10
Mechanical 13:
  lines w3.94: -1674.39,-104 -1699,-104 ; 1674.39,-104 1699,-104 ; -1699,-104 1699,-104 ; -1699,-104 -1699,-59 -1750,-59 -1750,59 -1699,59 -1654,104 1660.41,104 1699,59 1750,59 1750,-59 1699,-59 1699,-104
3D body: height 435.83, standoff 0, extent -1750.02,-104.02 1750.02,104.02

## HSPD/SM0.635-30V228A [mil] "Connector; High-Speed, Receptacle; 228 Position; Vertical"
height 250
pads (261):
  rect 17x50 smd: 1(-1475,-139) 2(-1475,139) 3(-1450,-139) 4(-1450,139) 5(-1425,-139) 6(-1425,139) 7(-1400,-139) 8(-1400,139) 9(-1375,-139) 10(-1375,139) 11(-1350,-139) 12(-1350,139) 13(-1325,-139) 14(-1325,139) 15(-1300,-139) 16(-1300,139) 17(-1275,-139) 18(-1275,139) 19(-1250,-139) 20(-1250,139) 21(-1225,-139) 22(-1225,139) 23(-1200,-139) 24(-1200,139) 25(-1175,-139) 26(-1175,139) 27(-1150,-139) 28(-1150,139) 29(-1125,-139) 30(-1125,139) 31(-1100,-139) 32(-1100,139) 33(-1075,-139) 34(-1075,139) 35(-1050,-139) 36(-1050,139) 37(-1025,-139) 38(-1025,139) 39(-975,-139) 40(-975,139) 41(-950,-139) 42(-950,139) 43(-925,-139) 44(-925,139) 45(-900,-139) 46(-900,139) 47(-875,-139) 48(-875,139) 49(-850,-139) 50(-850,139) 51(-825,-139) 52(-825,139) 53(-800,-139) 54(-800,139) 55(-775,-139) 56(-775,139) 57(-750,-139) 58(-750,139) 59(-725,-139) 60(-725,139) 61(-700,-139) 62(-700,139) 63(-675,-139) 64(-675,139) 65(-650,-139) 66(-650,139) 67(-625,-139) 68(-625,139) 69(-600,-139) 70(-600,139) 71(-575,-139) 72(-575,139) 73(-550,-139) 74(-550,139) 75(-525,-139) 76(-525,139) 77(-475,-139) 78(-475,139) 79(-450,-139) 80(-450,139) 81(-425,-139) 82(-425,139) 83(-400,-139) 84(-400,139) 85(-375,-139) 86(-375,139) 87(-350,-139) 88(-350,139) 89(-325,-139) 90(-325,139) 91(-300,-139) 92(-300,139) 93(-275,-139) 94(-275,139) 95(-250,-139) 96(-250,139) 97(-225,-139) 98(-225,139) 99(-200,-139) 100(-200,139) 101(-175,-139) 102(-175,139) 103(-150,-139) 104(-150,139) 105(-125,-139) 106(-125,139) 107(-100,-139) 108(-100,139) 109(-75,-139) 110(-75,139) 111(-50,-139) 112(-50,139) 113(-25,-139) 114(-25,139) 115(25,-139) 116(25,139) 117(50,-139) 118(50,139) 119(75,-139) 120(75,139) 121(100,-139) 122(100,139) 123(125,-139) 124(125,139) 125(150,-139) 126(150,139) 127(175,-139) 128(175,139) 129(200,-139) 130(200,139) 131(225,-139) 132(225,139) 133(250,-139) 134(250,139) 135(275,-139) 136(275,139) 137(300,-139) 138(300,139) 139(325,-139) 140(325,139) 141(350,-139) 142(350,139) 143(375,-139) 144(375,139) 145(400,-139) 146(400,139) 147(425,-139) 148(425,139) 149(450,-139) 150(450,139) 151(475,-139) 152(475,139) 153(525,-139) 154(525,139) 155(550,-139) 156(550,139) 157(575,-139) 158(575,139) 159(600,-139) 160(600,139) 161(625,-139) 162(625,139) 163(650,-139) 164(650,139) 165(675,-139) 166(675,139) 167(700,-139) 168(700,139) 169(725,-139) 170(725,139) 171(750,-139) 172(750,139) 173(775,-139) 174(775,139) 175(800,-139) 176(800,139) 177(825,-139) 178(825,139) 179(850,-139) 180(850,139) 181(875,-139) 182(875,139) 183(900,-139) 184(900,139) 185(925,-139) 186(925,139) 187(950,-139) 188(950,139) 189(975,-139) 190(975,139) 191(1025,-139) 192(1025,139) 193(1050,-139) 194(1050,139) 195(1075,-139) 196(1075,139) 197(1100,-139) 198(1100,139) 199(1125,-139) 200(1125,139) 201(1150,-139) 202(1150,139) 203(1175,-139) 204(1175,139) 205(1200,-139) 206(1200,139) 207(1225,-139) 208(1225,139) 209(1250,-139) 210(1250,139) 211(1275,-139) 212(1275,139) 213(1300,-139) 214(1300,139) 215(1325,-139) 216(1325,139) 217(1350,-139) 218(1350,139) 219(1375,-139) 220(1375,139) 221(1400,-139) 222(1400,139) 223(1425,-139) 224(1425,139) 225(1450,-139) 226(1450,139) 227(1475,-139) 228(1475,139)
  round 55.12 hole 32: 229(1450,0) 230(1350,0) 231(1250,0) 232(1150,0) 233(1050,0) 234(950,0) 235(850,0) 236(750,0) 237(650,0) 238(550,0) 239(450,0) 240(350,0) 241(250,0) 242(150,0) 243(50,0) 244(-50,0) 245(-150,0) 246(-250,0) 247(-350,0) 248(-450,0) 249(-550,0) 250(-650,0) 251(-750,0) 252(-850,0) 253(-950,0) 254(-1050,0) 255(-1150,0) 256(-1250,0) 257(-1350,0) 258(-1450,0)
  round 82.19 hole 94 unplated: 259(-1700,0) 260(0,-257.11) 261(0,257.11)
Top Overlay:
  circle w9.84: c-1475,-185.65 r4.92
  lines w7.87: -1750,-125.69 -1750,-136 -1739.68,-136 ; -1750,-37.91 -1750,-106 -1556.32,-106 ; -1750,37.91 -1750,106 -1556.32,106 ; -1750,125.69 -1750,136 -1739.68,136 ; 1674.39,-106 1750,-106 1750,106 1674.39,106 ; 1739.68,-136 1750,-136 1750,-125.69 ; 1739.68,136 1750,136 1750,125.69
  text "2" at -1541.93,109.47 h59.06
  text "1" at -1522.24,-168.53 h59.06
  text "228" at 1502.56,109.47 h59.06
  text "227" at 1502.56,-168.53 h59.06
Mechanical 1:
  lines w3.94: -10,0 10,0 ; 0,-10 0,10
Mechanical 13:
  lines w3.94: -1750,-136 1750,-136 1750,136 -1750,136 -1750,-136
3D body: height 250, standoff 0, extent -1750,-136 1750,136

## HSPD/SM0.635-30V228B [mil] "Connector; High-Speed, Receptacle; 228 Position; Vertical"
height 600.79
pads (261):
  rect 17x50 smd: 1(-1475,-139) 2(-1475,139) 3(-1450,-139) 4(-1450,139) 5(-1425,-139) 6(-1425,139) 7(-1400,-139) 8(-1400,139) 9(-1375,-139) 10(-1375,139) 11(-1350,-139) 12(-1350,139) 13(-1325,-139) 14(-1325,139) 15(-1300,-139) 16(-1300,139) 17(-1275,-139) 18(-1275,139) 19(-1250,-139) 20(-1250,139) 21(-1225,-139) 22(-1225,139) 23(-1200,-139) 24(-1200,139) 25(-1175,-139) 26(-1175,139) 27(-1150,-139) 28(-1150,139) 29(-1125,-139) 30(-1125,139) 31(-1100,-139) 32(-1100,139) 33(-1075,-139) 34(-1075,139) 35(-1050,-139) 36(-1050,139) 37(-1025,-139) 38(-1025,139) 39(-975,-139) 40(-975,139) 41(-950,-139) 42(-950,139) 43(-925,-139) 44(-925,139) 45(-900,-139) 46(-900,139) 47(-875,-139) 48(-875,139) 49(-850,-139) 50(-850,139) 51(-825,-139) 52(-825,139) 53(-800,-139) 54(-800,139) 55(-775,-139) 56(-775,139) 57(-750,-139) 58(-750,139) 59(-725,-139) 60(-725,139) 61(-700,-139) 62(-700,139) 63(-675,-139) 64(-675,139) 65(-650,-139) 66(-650,139) 67(-625,-139) 68(-625,139) 69(-600,-139) 70(-600,139) 71(-575,-139) 72(-575,139) 73(-550,-139) 74(-550,139) 75(-525,-139) 76(-525,139) 77(-475,-139) 78(-475,139) 79(-450,-139) 80(-450,139) 81(-425,-139) 82(-425,139) 83(-400,-139) 84(-400,139) 85(-375,-139) 86(-375,139) 87(-350,-139) 88(-350,139) 89(-325,-139) 90(-325,139) 91(-300,-139) 92(-300,139) 93(-275,-139) 94(-275,139) 95(-250,-139) 96(-250,139) 97(-225,-139) 98(-225,139) 99(-200,-139) 100(-200,139) 101(-175,-139) 102(-175,139) 103(-150,-139) 104(-150,139) 105(-125,-139) 106(-125,139) 107(-100,-139) 108(-100,139) 109(-75,-139) 110(-75,139) 111(-50,-139) 112(-50,139) 113(-25,-139) 114(-25,139) 115(25,-139) 116(25,139) 117(50,-139) 118(50,139) 119(75,-139) 120(75,139) 121(100,-139) 122(100,139) 123(125,-139) 124(125,139) 125(150,-139) 126(150,139) 127(175,-139) 128(175,139) 129(200,-139) 130(200,139) 131(225,-139) 132(225,139) 133(250,-139) 134(250,139) 135(275,-139) 136(275,139) 137(300,-139) 138(300,139) 139(325,-139) 140(325,139) 141(350,-139) 142(350,139) 143(375,-139) 144(375,139) 145(400,-139) 146(400,139) 147(425,-139) 148(425,139) 149(450,-139) 150(450,139) 151(475,-139) 152(475,139) 153(525,-139) 154(525,139) 155(550,-139) 156(550,139) 157(575,-139) 158(575,139) 159(600,-139) 160(600,139) 161(625,-139) 162(625,139) 163(650,-139) 164(650,139) 165(675,-139) 166(675,139) 167(700,-139) 168(700,139) 169(725,-139) 170(725,139) 171(750,-139) 172(750,139) 173(775,-139) 174(775,139) 175(800,-139) 176(800,139) 177(825,-139) 178(825,139) 179(850,-139) 180(850,139) 181(875,-139) 182(875,139) 183(900,-139) 184(900,139) 185(925,-139) 186(925,139) 187(950,-139) 188(950,139) 189(975,-139) 190(975,139) 191(1025,-139) 192(1025,139) 193(1050,-139) 194(1050,139) 195(1075,-139) 196(1075,139) 197(1100,-139) 198(1100,139) 199(1125,-139) 200(1125,139) 201(1150,-139) 202(1150,139) 203(1175,-139) 204(1175,139) 205(1200,-139) 206(1200,139) 207(1225,-139) 208(1225,139) 209(1250,-139) 210(1250,139) 211(1275,-139) 212(1275,139) 213(1300,-139) 214(1300,139) 215(1325,-139) 216(1325,139) 217(1350,-139) 218(1350,139) 219(1375,-139) 220(1375,139) 221(1400,-139) 222(1400,139) 223(1425,-139) 224(1425,139) 225(1450,-139) 226(1450,139) 227(1475,-139) 228(1475,139)
  round 43.31 hole 25: 229(1450,0) 230(1350,0) 231(1250,0) 232(1150,0) 233(1050,0) 234(950,0) 235(850,0) 236(750,0) 237(650,0) 238(550,0) 239(450,0) 240(350,0) 241(250,0) 242(150,0) 243(50,0) 244(-50,0) 245(-150,0) 246(-250,0) 247(-350,0) 248(-450,0) 249(-550,0) 250(-650,0) 251(-750,0) 252(-850,0) 253(-950,0) 254(-1050,0) 255(-1150,0) 256(-1250,0) 257(-1350,0) 258(-1450,0)
  round 67.19 hole 79 unplated: 259(-1700,0)
  round 82.19 hole 79: 260(0,-257.11) 261(0,257.11)
Top Overlay:
  circle w9.84: c-1475,-185.65 r4.92
  lines w7.87: -1750,-125.69 -1750,-157.5 -1718.18,-157.5 ; -1750,-23.5 -1750,-106 -1556.32,-106 ; -1750,23.5 -1750,106 -1556.32,106 ; -1750,125.69 -1750,157.5 -1718.18,157.5 ; 1674.39,-106 1750,-106 1750,106 1674.39,106 ; 1718.18,-157.5 1750,-157.5 1750,-125.69 ; 1718.18,157.5 1750,157.5 1750,125.69
  text "2" at -1541.93,109.47 h59.06
  text "1" at -1522.24,-168.53 h59.06
  text "228" at 1502.56,109.47 h59.06
  text "227" at 1502.56,-168.53 h59.06
Mechanical 1:
  lines w3.94: -10,0 10,0 ; 0,-10 0,10
Mechanical 13:
  lines w3.94: -1750,-157.5 1750,-157.5 1750,157.5 -1750,157.5 -1750,-157.5
3D body: height 600.79, standoff 0, extent -1750,-157.5 1750,157.5

## HSPD/SM0.635-30V228C [mil] "Connector; High-Speed, Plug; 228 Position; Vertical"
height 903.15
pads (261):
  rect 17x50 smd: 1(-1475,139) 2(-1475,-139) 3(-1450,139) 4(-1450,-139) 5(-1425,139) 6(-1425,-139) 7(-1400,139) 8(-1400,-139) 9(-1375,139) 10(-1375,-139) 11(-1350,139) 12(-1350,-139) 13(-1325,139) 14(-1325,-139) 15(-1300,139) 16(-1300,-139) 17(-1275,139) 18(-1275,-139) 19(-1250,139) 20(-1250,-139) 21(-1225,139) 22(-1225,-139) 23(-1200,139) 24(-1200,-139) 25(-1175,139) 26(-1175,-139) 27(-1150,139) 28(-1150,-139) 29(-1125,139) 30(-1125,-139) 31(-1100,139) 32(-1100,-139) 33(-1075,139) 34(-1075,-139) 35(-1050,139) 36(-1050,-139) 37(-1025,139) 38(-1025,-139) 39(-975,139) 40(-975,-139) 41(-950,139) 42(-950,-139) 43(-925,139) 44(-925,-139) 45(-900,139) 46(-900,-139) 47(-875,139) 48(-875,-139) 49(-850,139) 50(-850,-139) 51(-825,139) 52(-825,-139) 53(-800,139) 54(-800,-139) 55(-775,139) 56(-775,-139) 57(-750,139) 58(-750,-139) 59(-725,139) 60(-725,-139) 61(-700,139) 62(-700,-139) 63(-675,139) 64(-675,-139) 65(-650,139) 66(-650,-139) 67(-625,139) 68(-625,-139) 69(-600,139) 70(-600,-139) 71(-575,139) 72(-575,-139) 73(-550,139) 74(-550,-139) 75(-525,139) 76(-525,-139) 77(-475,139) 78(-475,-139) 79(-450,139) 80(-450,-139) 81(-425,139) 82(-425,-139) 83(-400,139) 84(-400,-139) 85(-375,139) 86(-375,-139) 87(-350,139) 88(-350,-139) 89(-325,139) 90(-325,-139) 91(-300,139) 92(-300,-139) 93(-275,139) 94(-275,-139) 95(-250,139) 96(-250,-139) 97(-225,139) 98(-225,-139) 99(-200,139) 100(-200,-139) 101(-175,139) 102(-175,-139) 103(-150,139) 104(-150,-139) 105(-125,139) 106(-125,-139) 107(-100,139) 108(-100,-139) 109(-75,139) 110(-75,-139) 111(-50,139) 112(-50,-139) 113(-25,139) 114(-25,-139) 115(25,139) 116(25,-139) 117(50,139) 118(50,-139) 119(75,139) 120(75,-139) 121(100,139) 122(100,-139) 123(125,139) 124(125,-139) 125(150,139) 126(150,-139) 127(175,139) 128(175,-139) 129(200,139) 130(200,-139) 131(225,139) 132(225,-139) 133(250,139) 134(250,-139) 135(275,139) 136(275,-139) 137(300,139) 138(300,-139) 139(325,139) 140(325,-139) 141(350,139) 142(350,-139) 143(375,139) 144(375,-139) 145(400,139) 146(400,-139) 147(425,139) 148(425,-139) 149(450,139) 150(450,-139) 151(475,139) 152(475,-139) 153(525,139) 154(525,-139) 155(550,139) 156(550,-139) 157(575,139) 158(575,-139) 159(600,139) 160(600,-139) 161(625,139) 162(625,-139) 163(650,139) 164(650,-139) 165(675,139) 166(675,-139) 167(700,139) 168(700,-139) 169(725,139) 170(725,-139) 171(750,139) 172(750,-139) 173(775,139) 174(775,-139) 175(800,139) 176(800,-139) 177(825,139) 178(825,-139) 179(850,139) 180(850,-139) 181(875,139) 182(875,-139) 183(900,139) 184(900,-139) 185(925,139) 186(925,-139) 187(950,139) 188(950,-139) 189(975,139) 190(975,-139) 191(1025,139) 192(1025,-139) 193(1050,139) 194(1050,-139) 195(1075,139) 196(1075,-139) 197(1100,139) 198(1100,-139) 199(1125,139) 200(1125,-139) 201(1150,139) 202(1150,-139) 203(1175,139) 204(1175,-139) 205(1200,139) 206(1200,-139) 207(1225,139) 208(1225,-139) 209(1250,139) 210(1250,-139) 211(1275,139) 212(1275,-139) 213(1300,139) 214(1300,-139) 215(1325,139) 216(1325,-139) 217(1350,139) 218(1350,-139) 219(1375,139) 220(1375,-139) 221(1400,139) 222(1400,-139) 223(1425,139) 224(1425,-139) 225(1450,139) 226(1450,-139) 227(1475,139) 228(1475,-139)
  round 55.12 hole 32: 229(1450,0) 230(1350,0) 231(1250,0) 232(1150,0) 233(1050,0) 234(950,0) 235(850,0) 236(750,0) 237(650,0) 238(550,0) 239(450,0) 240(350,0) 241(250,0) 242(150,0) 243(50,0) 244(-50,0) 245(-150,0) 246(-250,0) 247(-350,0) 248(-450,0) 249(-550,0) 250(-650,0) 251(-750,0) 252(-850,0) 253(-950,0) 254(-1050,0) 255(-1150,0) 256(-1250,0) 257(-1350,0) 258(-1450,0)
  round 82.19 hole 94 unplated: 259(-1700,0) 260(0,-257.11) 261(0,257.11)
Top Overlay:
  circle w9.84: c-1475,185.65 r4.92
  lines w7.87: -1750,-37.91 -1750,-160 -1556.32,-160 ; -1750,37.91 -1750,160 -1556.32,160 ; 1674.39,-160 1750,-160 1750,160 1674.39,160
  text "227" at 1502.56,109.47 h59.06
  text "228" at 1502.56,-168.53 h59.06
  text "1" at -1522.24,109.47 h59.06
  text "2" at -1541.93,-168.53 h59.06
Mechanical 1:
  lines w3.94: -10,0 10,0 ; 0,-10 0,10
Mechanical 13:
  lines w3.94: -1750,-160 -1750,160 1750,160 1750,-160 -1750,-160
3D body: height 903.15, standoff 0, extent -1750,-160 1750,160